# EAGLE library part STM32F407ZG (library lippa)
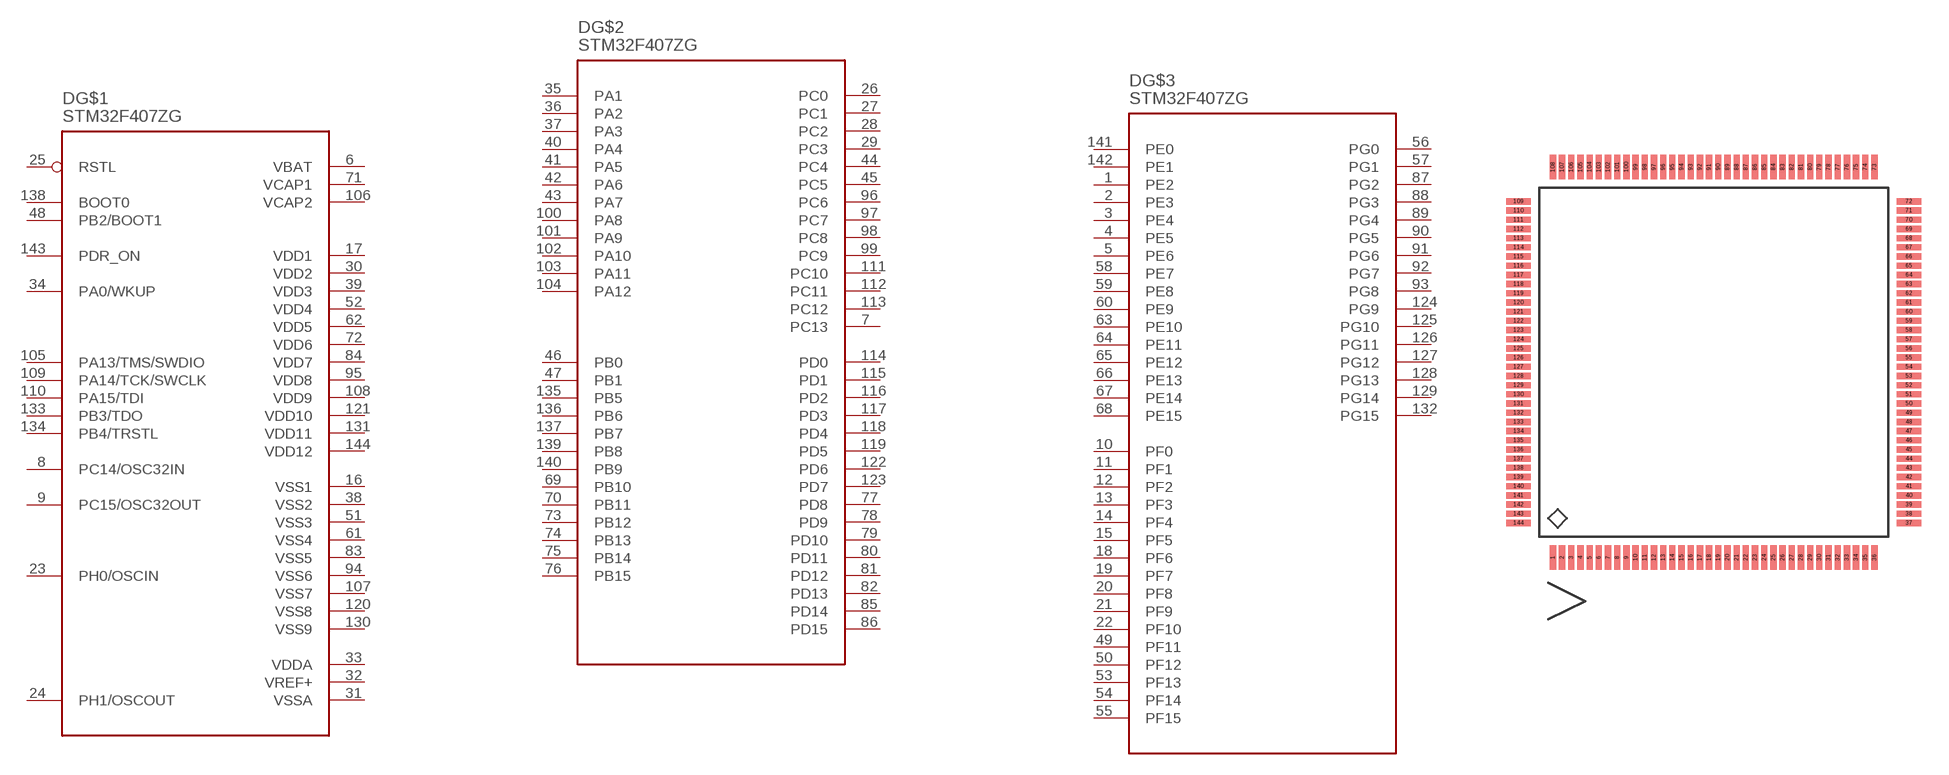
[diagram p1: symbol with the pads of LQFP-144; footprint LQFP-144]

Designator prefix D; gates G$1=STM32F407ZG_POWER G$2=STM32F407ZG_PABCD G$3=STM32F407ZG_PEFG

## STM32F407ZG  [LQFP-144]
1  G$3:PE2
2  G$3:PE3
3  G$3:PE4
4  G$3:PE5
5  G$3:PE6
6  G$1:VBAT
7  G$2:PC13
8  G$1:PC14/OSC32IN
9  G$1:PC15/OSC32OUT
10  G$3:PF0
11  G$3:PF1
12  G$3:PF2
13  G$3:PF3
14  G$3:PF4
15  G$3:PF5
16  G$1:VSS1
17  G$1:VDD1
18  G$3:PF6
19  G$3:PF7
20  G$3:PF8
21  G$3:PF9
22  G$3:PF10
23  G$1:PH0/OSCIN
24  G$1:PH1/OSCOUT
25  G$1:RSTL
26  G$2:PC0
27  G$2:PC1
28  G$2:PC2
29  G$2:PC3
30  G$1:VDD2
31  G$1:VSSA
32  G$1:VREF+
33  G$1:VDDA
34  G$1:PA0/WKUP
35  G$2:PA1
36  G$2:PA2
37  G$2:PA3
38  G$1:VSS2
39  G$1:VDD3
40  G$2:PA4
41  G$2:PA5
42  G$2:PA6
43  G$2:PA7
44  G$2:PC4
45  G$2:PC5
46  G$2:PB0
47  G$2:PB1
48  G$1:PB2/BOOT1
49  G$3:PF11
50  G$3:PF12
51  G$1:VSS3
52  G$1:VDD4
53  G$3:PF13
54  G$3:PF14
55  G$3:PF15
56  G$3:PG0
57  G$3:PG1
58  G$3:PE7
59  G$3:PE8
60  G$3:PE9
61  G$1:VSS4
62  G$1:VDD5
63  G$3:PE10
64  G$3:PE11
65  G$3:PE12
66  G$3:PE13
67  G$3:PE14
68  G$3:PE15
69  G$2:PB10
70  G$2:PB11
71  G$1:VCAP1
72  G$1:VDD6
73  G$2:PB12
74  G$2:PB13
75  G$2:PB14
76  G$2:PB15
77  G$2:PD8
78  G$2:PD9
79  G$2:PD10
80  G$2:PD11
81  G$2:PD12
82  G$2:PD13
83  G$1:VSS5
84  G$1:VDD7
85  G$2:PD14
86  G$2:PD15
87  G$3:PG2
88  G$3:PG3
89  G$3:PG4
90  G$3:PG5
91  G$3:PG6
92  G$3:PG7
93  G$3:PG8
94  G$1:VSS6
95  G$1:VDD8
96  G$2:PC6
97  G$2:PC7
98  G$2:PC8
99  G$2:PC9
100  G$2:PA8
101  G$2:PA9
102  G$2:PA10
103  G$2:PA11
104  G$2:PA12
105  G$1:PA13/TMS/SWDIO
106  G$1:VCAP2
107  G$1:VSS7
108  G$1:VDD9
109  G$1:PA14/TCK/SWCLK
110  G$1:PA15/TDI
111  G$2:PC10
112  G$2:PC11
113  G$2:PC12
114  G$2:PD0
115  G$2:PD1
116  G$2:PD2
117  G$2:PD3
118  G$2:PD4
119  G$2:PD5
120  G$1:VSS8
121  G$1:VDD10
122  G$2:PD6
123  G$2:PD7
124  G$3:PG9
125  G$3:PG10
126  G$3:PG11
127  G$3:PG12
128  G$3:PG13
129  G$3:PG14
130  G$1:VSS9
131  G$1:VDD11
132  G$3:PG15
133  G$1:PB3/TDO
134  G$1:PB4/TRSTL
135  G$2:PB5
136  G$2:PB6
137  G$2:PB7
138  G$1:BOOT0
139  G$2:PB8
140  G$2:PB9
141  G$3:PE0
142  G$3:PE1
143  G$1:PDR_ON
144  G$1:VDD12

## Footprint LQFP-144 (pad centres in mm)
smd 0.34 x 1.35: 1 -8.75,-10.625; 2 -8.25,-10.625; 3 -7.75,-10.625; 4 -7.25,-10.625; 5 -6.75,-10.625; 6 -6.25,-10.625; 7 -5.75,-10.625; 8 -5.25,-10.625; 9 -4.75,-10.625; 10 -4.25,-10.625; 11 -3.75,-10.625; 12 -3.25,-10.625; 13 -2.75,-10.625; 14 -2.25,-10.625; 15 -1.75,-10.625; 16 -1.25,-10.625; 17 -0.75,-10.625; 18 -0.25,-10.625; 19 0.25,-10.625; 20 0.75,-10.625; 21 1.25,-10.625; 22 1.75,-10.625; 23 2.25,-10.625; 24 2.75,-10.625; 25 3.25,-10.625; 26 3.75,-10.625; 27 4.25,-10.625; 28 4.75,-10.625; 29 5.25,-10.625; 30 5.75,-10.625; 31 6.25,-10.625; 32 6.75,-10.625; 33 7.25,-10.625; 34 7.75,-10.625; 35 8.25,-10.625; 36 8.75,-10.625; 73 8.75,10.625; 74 8.25,10.625; 75 7.75,10.625; 76 7.25,10.625; 77 6.75,10.625; 78 6.25,10.625; 79 5.75,10.625; 80 5.25,10.625; 81 4.75,10.625; 82 4.25,10.625; 83 3.75,10.625; 84 3.25,10.625; 85 2.75,10.625; 86 2.25,10.625; 87 1.75,10.625; 88 1.25,10.625; 89 0.75,10.625; 90 0.25,10.625; 91 -0.25,10.625; 92 -0.75,10.625; 93 -1.25,10.625; 94 -1.75,10.625; 95 -2.25,10.625; 96 -2.75,10.625; 97 -3.25,10.625; 98 -3.75,10.625; 99 -4.25,10.625; 100 -4.75,10.625; 101 -5.25,10.625; 102 -5.75,10.625; 103 -6.25,10.625; 104 -6.75,10.625; 105 -7.25,10.625; 106 -7.75,10.625; 107 -8.25,10.625; 108 -8.75,10.625
smd 1.35 x 0.34: 37 10.625,-8.75; 38 10.625,-8.25; 39 10.625,-7.75; 40 10.625,-7.25; 41 10.625,-6.75; 42 10.625,-6.25; 43 10.625,-5.75; 44 10.625,-5.25; 45 10.625,-4.75; 46 10.625,-4.25; 47 10.625,-3.75; 48 10.625,-3.25; 49 10.625,-2.75; 50 10.625,-2.25; 51 10.625,-1.75; 52 10.625,-1.25; 53 10.625,-0.75; 54 10.625,-0.25; 55 10.625,0.25; 56 10.625,0.75; 57 10.625,1.25; 58 10.625,1.75; 59 10.625,2.25; 60 10.625,2.75; 61 10.625,3.25; 62 10.625,3.75; 63 10.625,4.25; 64 10.625,4.75; 65 10.625,5.25; 66 10.625,5.75; 67 10.625,6.25; 68 10.625,6.75; 69 10.625,7.25; 70 10.625,7.75; 71 10.625,8.25; 72 10.625,8.75; 109 -10.625,8.75; 110 -10.625,8.25; 111 -10.625,7.75; 112 -10.625,7.25; 113 -10.625,6.75; 114 -10.625,6.25; 115 -10.625,5.75; 116 -10.625,5.25; 117 -10.625,4.75; 118 -10.625,4.25; 119 -10.625,3.75; 120 -10.625,3.25; 121 -10.625,2.75; 122 -10.625,2.25; 123 -10.625,1.75; 124 -10.625,1.25; 125 -10.625,0.75; 126 -10.625,0.25; 127 -10.625,-0.25; 128 -10.625,-0.75; 129 -10.625,-1.25; 130 -10.625,-1.75; 131 -10.625,-2.25; 132 -10.625,-2.75; 133 -10.625,-3.25; 134 -10.625,-3.75; 135 -10.625,-4.25; 136 -10.625,-4.75; 137 -10.625,-5.25; 138 -10.625,-5.75; 139 -10.625,-6.25; 140 -10.625,-6.75; 141 -10.625,-7.25; 142 -10.625,-7.75; 143 -10.625,-8.25; 144 -10.625,-8.75